# EAGLE library part KMZ52-SO16 (library shmuma)
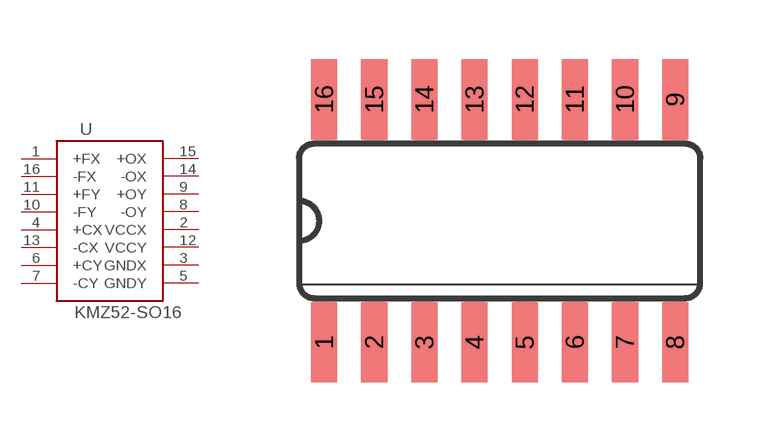
[diagram p1: symbol with the pads of SO16; footprint SO16]

Designator prefix -

## KMZ52-SO16  [SO16]
1  +FX
2  VCCX  pwr
3  GNDX  pwr
4  +CX
5  GNDY  pwr
6  +CY
7  -CY
8  -OY
9  +OY
10  -FY
11  +FY
12  VCCY  pwr
13  -CX
14  -OX
15  +OX
16  -FX

## Footprint SO16 (pad centres in mm)
Small Outline package 150 mil
smd 0.66 x 2.032: 1 -4.445,-3.073; 2 -3.175,-3.073; 3 -1.905,-3.073; 4 -0.635,-3.073; 5 0.635,-3.073; 6 1.905,-3.073; 7 3.175,-3.073; 8 4.445,-3.073; 9 4.445,3.073; 10 3.175,3.073; 11 1.905,3.073; 12 0.635,3.073; 13 -0.635,3.073; 14 -1.905,3.073; 15 -3.175,3.073; 16 -4.445,3.073